# Altium footprint library FuseBoard.PcbLib: 6 footprints
Each footprint in its own frame and in the unit in brackets; x right, y up, seen from the top. Pads: shape width x height; smd on the part's side, far side on the other; paste and mask are expansions set on the pad; w line width, h text height; cw(c..) or ccw(c..) is an arc to the next point about the centre after c.
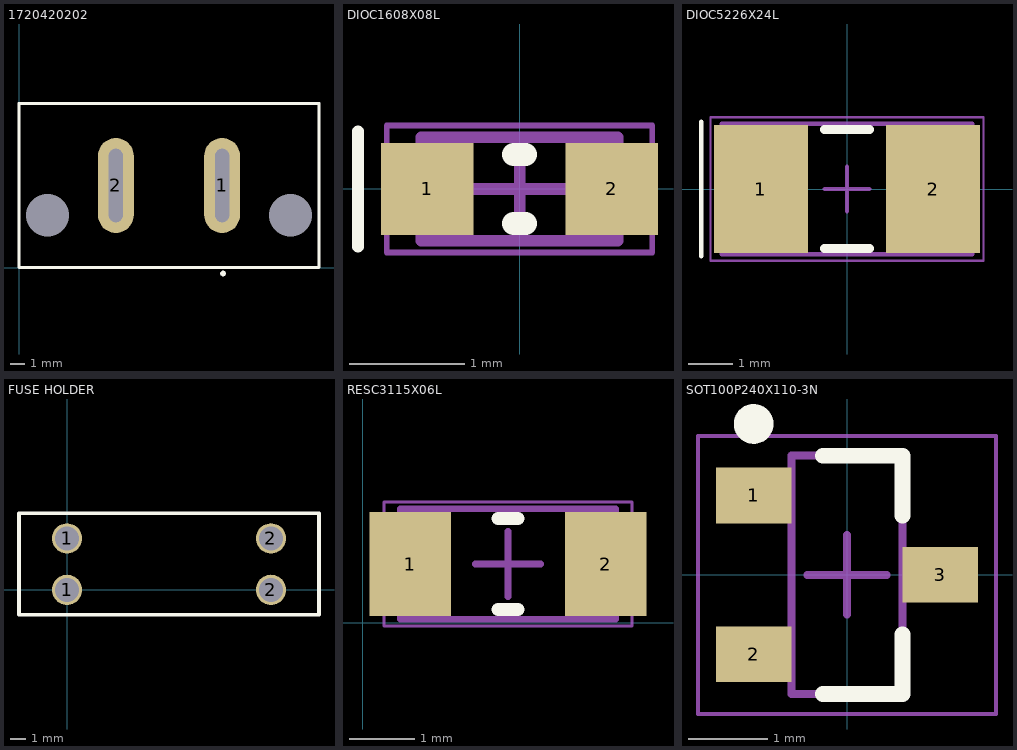
[diagram p0: the footprints below, top view; thin cyan lines are the x and y axes]

## 1720420202 [mil] "Molex Super Sabre connector, board mount"
pads (4):
  oval 99x263 hole 39 slot 203 at 90 deg: 1(562,227) 2(268,227)
  round 0 hole 118 unplated mask+0: ""(79,145) ""(751,145)
Top Layer:
  pour cut-out: 145,373
  pour cut-out: 159,69
  pour cut-out: 165,376
  pour cut-out: 121,393
Top Overlay:
  lines w3.94: 0,454 830,454 ; 0,455 0.04,255 ; 0.04,55 0.04,0.47 815,0.47 829.96,0.47 829.96,55 ; 829.96,255 829.96,455
  lines w7.87: 0,0 830,0 ; 0,454 830,454 ; 0.04,0.47 0.04,454.41 ; 568.54,-16.65 cw(c564.61,-16.65) 560.67,-16.65 cw(c564.63,-16.67) 568.58,-16.67 ; 829.96,454.41 830,0.47

## DIOC1608X08L [mm] "Chip Diode, 2-Leads, Body 1.60x0.80mm, IPC High Density"
height 0.8
pads (2):
  rect 0.8x0.8 smd: 1(-0.8,0) 2(0.8,0)
Top Overlay:
  lines w0.1: -1.4,-0.5 -1.4,0.5
  lines w0.2: -0.05,-0.3 0.05,-0.3 ; -0.05,0.3 0.05,0.3
Mechanical 13:
  lines w0.1: -0.85,-0.45 -0.85,0.45 0.85,0.45 0.85,-0.45 -0.85,-0.45
Mechanical 15:
  lines w0.05: -1.15,-0.55 -1.15,0.55 1.15,0.55 1.15,-0.55 -1.15,-0.55
  lines w0.1: -0.45,0 0.45,0 ; 0,-0.45 0,0.45
3D body: height 0.8, standoff 0, extent -0.55,-0.45 0.55,0.45
3D body: height 0.8, standoff 0, extent -0.85,-0.45 -0.55,0.45
3D body: height 0.8, standoff 0, extent 0.55,-0.45 0.85,0.45

## DIOC5226X24L [mm] "Chip Diode, 2-Leads, Body 5.20x2.61mm, IPC High Density"
height 2.4
pads (2):
  rect 2.1x2.85 smd: 1(-1.925,0) 2(1.925,0)
Top Overlay:
  lines w0.1: -3.25,-1.5 -3.25,1.5
  lines w0.2: -0.5,-1.325 0.5,-1.325 ; -0.5,1.325 0.5,1.325
Mechanical 13:
  lines w0.1: -2.795,-1.46 -2.795,1.46 2.795,1.46 2.795,-1.46 -2.795,-1.46
Mechanical 15:
  lines w0.05: -3.05,-1.6 -3.05,1.6 3.05,1.6 3.05,-1.6 -3.05,-1.6
  lines w0.1: -0.5,0 0.5,0 ; 0,-0.5 0,0.5
3D body: height 2.4, standoff 0, extent -1.655,-1.46 1.655,1.46
3D body: height 2.4, standoff 0, extent -2.795,-1.46 -1.655,1.46
3D body: height 2.4, standoff 0, extent 1.655,-1.46 2.795,1.46

## FUSE HOLDER [mm]
pads (4):
  round 2 hole 1.6: 1(0,0) 1(0,3.4) 2(13.47,0) 2(13.47,3.4)
Top Overlay:
  lines w0.254: -3.172,-1.648 -3.17,-1.646 -3.17,5.065 16.64,5.065 16.64,-1.648 -3.172,-1.648

## RESC3115X06L [mm] "Chip Resistor, 2-Leads, Body 3.10x1.50mm, IPC High Density"
height 0.6
pads (2):
  rect 1.25x1.6 smd: 1(0.726,0.901) 2(3.726,0.901)
Top Overlay:
  lines w0.2: 2.076,0.201 2.376,0.201 ; 2.076,1.601 2.376,1.601
Mechanical 13:
  lines w0.1: 0.576,0.051 0.576,1.751 3.876,1.751 3.876,0.051 0.576,0.051
Mechanical 15:
  lines w0.05: 0.326,-0.049 0.326,1.851 4.126,1.851 4.126,-0.049 0.326,-0.049
  lines w0.1: 1.726,0.901 2.726,0.901 ; 2.226,0.401 2.226,1.401
3D body: height 0.6, standoff 0, extent 1.276,0.051 3.176,1.751
3D body: height 0.6, standoff 0, extent 0.576,0.051 1.276,1.751
3D body: height 0.6, standoff 0, extent 3.176,0.051 3.876,1.751

## SOT100P240X110-3N [mm] "SOT23, 3-Leads, Body 2.90x2.40mm, Pitch 1.00mm, IPC Medium Density"
height 1.1
pads (3):
  rect 0.95x0.7 smd: 1(-1.175,1) 2(-1.175,-1) 3(1.175,0)
Top Overlay:
  circle w0.25: c-1.175,1.9 r0.125
  lines w0.2: -0.3,-1.5 0.7,-1.5 0.7,-0.75 ; -0.3,1.5 0.7,1.5 0.7,0.75
Mechanical 13:
  lines w0.1: -0.7,-1.5 -0.7,1.5 0.7,1.5 0.7,-1.5 -0.7,-1.5
Mechanical 15:
  lines w0.05: -1.875,-1.75 -1.875,1.75 1.875,1.75 1.875,-1.75 -1.875,-1.75
  lines w0.1: -0.5,0 0.5,0 ; 0,-0.5 0,0.5
3D body: height 1.1, standoff 0.05, extent -0.7,-1.5 0.7,1.5